# Altium footprint library PcbLib.PcbLib: 26 footprints (part 2 of 2)
Each footprint in its own frame and in the unit in brackets; x right, y up, seen from the top. Pads: shape width x height; smd on the part's side, far side on the other; paste and mask are expansions set on the pad; w line width, h text height; cw(c..) or ccw(c..) is an arc to the next point about the centre after c.
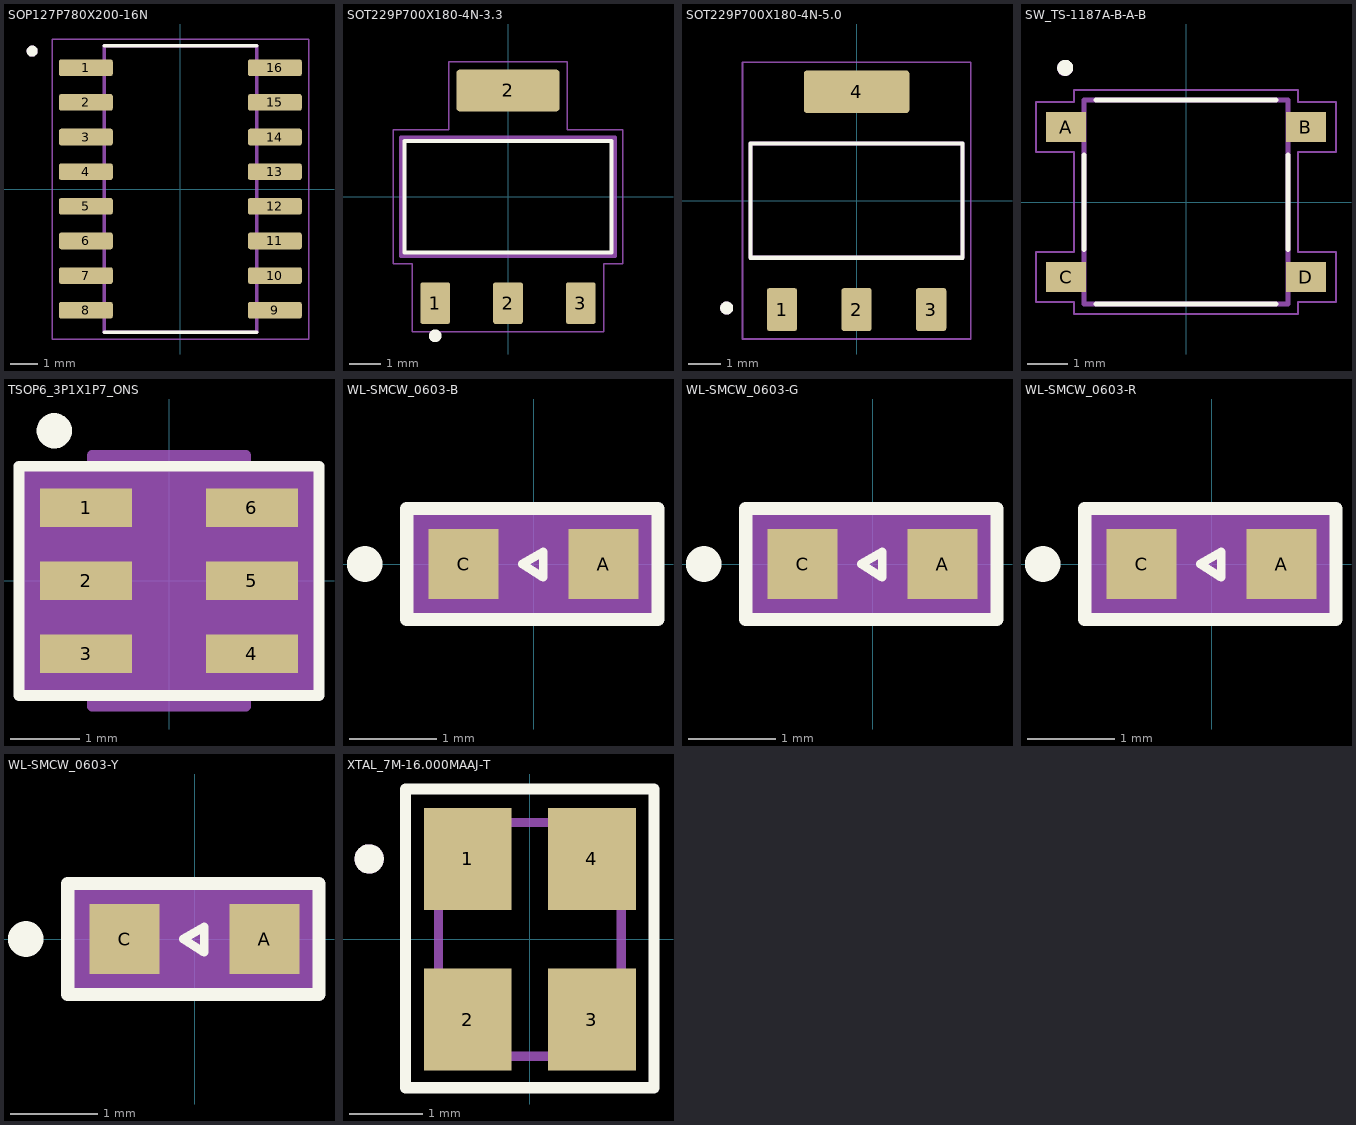
[diagram p1: the footprints below, top view; thin cyan lines are the x and y axes]

## SOP127P780X200-16N [mm]
height 2
pads (16):
  rrect25% 1.97x0.61 smd paste+0 mask+0.102: 1(-3.465,4.445) 2(-3.465,3.175) 3(-3.465,1.905) 4(-3.465,0.635) 5(-3.465,-0.635) 6(-3.465,-1.905) 7(-3.465,-3.175) 8(-3.465,-4.445) 9(3.465,-4.445) 10(3.465,-3.175) 11(3.465,-1.905) 12(3.465,-0.635) 13(3.465,0.635) 14(3.465,1.905) 15(3.465,3.175) 16(3.465,4.445)
Top Overlay:
  circle w0.2: c-5.435,5.055 r0.1
  lines w0.127: -2.8,-5.25 2.8,-5.25 ; -2.8,5.25 2.8,5.25
Mechanical 13:
  circle w0.2: c-5.435,5.055 r0.1
  lines w0.127: -2.8,-5.25 -2.8,5.25 2.8,5.25 2.8,-5.25 -2.8,-5.25
Mechanical 15:
  lines w0.05: -4.7,-5.5 -4.7,5.5 4.7,5.5 4.7,-5.5 -4.7,-5.5
3D body "CH340G-SOP16--3DModel.STEP": height 1.8, standoff -0.2, extent -3.96,-5.1 3.96,5.1

## SOT229P700X180-4N-3.3 [mm]
pads (4):
  rrect15% 0.93x1.31 smd: 1(-2.29,-3.345) 2(0,-3.345) 3(2.29,-3.345)
  rrect15% 3.24x1.31 smd: 2(0,3.345)
Top Overlay:
  circle w0.2: c-2.29,-4.373 r0.1
  lines w0.127: -3.253,-1.753 3.253,-1.753 3.253,1.753 -3.253,1.753 -3.253,-1.753
Mechanical 13:
  lines w0.127: -3.36,-1.86 -3.36,1.86 3.36,1.86 3.36,-1.86 -3.36,-1.86
Mechanical 15:
  lines w0.05: -3.61,-2.11 -3.61,2.11 -1.87,2.11 -1.87,4.25 1.87,4.25 1.87,2.11 3.61,2.11 3.61,-2.11 3.01,-2.11 3.01,-4.25 -3.01,-4.25 -3.01,-2.11 -3.61,-2.11
3D body "AMS1117-3.3--3DModel.STEP": height 1.8, standoff 0, extent -3.15,-3.5 3.15,3.5

## SOT229P700X180-4N-5.0 [mm]
height 1.8
pads (4):
  rrect15% 0.93x1.31 smd: 1(-2.29,-3.345) 2(0,-3.345) 3(2.29,-3.345)
  rrect15% 3.24x1.31 smd: 4(0,3.345)
Top Overlay:
  circle w0.2: c-3.99,-3.3 r0.1
  lines w0.127: -3.253,-1.753 -3.253,1.753 3.253,1.753 3.253,-1.753 -3.253,-1.753
Mechanical 13:
  circle w0.2: c-3.99,-3.3 r0.1
  lines w0.127: -3.253,-1.753 -3.253,1.753 3.253,1.753 3.253,-1.753 -3.253,-1.753
Mechanical 15:
  lines w0.05: -3.502,-4.25 -3.502,4.25 3.502,4.25 3.502,-4.25 -3.502,-4.25
3D body "AMS1117-5.0--3DModel.STEP": height 1.8, standoff 0, extent -3.251,-3.499 3.251,3.499

## SW_TS-1187A-B-A-B [mm]
pads (4):
  rect 1x0.75 smd: A(-3,1.875) B(3,1.875) C(-3,-1.875) D(3,-1.875)
Top Overlay:
  lines w0.127: -2.55,-1.18 -2.55,1.18 ; -2.25,-2.55 2.25,-2.55 ; -2.25,2.55 2.25,2.55 ; 2.55,-1.18 2.55,1.18
  lines w0.2: -2.974,3.45 ccw(c-3.019,3.36) -2.946,3.429
Mechanical 13:
  circle w0.2: c-3.023,3.353 r0.1
  lines w0.127: -2.55,-2.55 -2.55,2.55 2.55,2.55 2.55,-2.55 -2.55,-2.55
Mechanical 15:
  lines w0.05: -3.75,-2.5 -3.75,-1.25 -2.8,-1.25 -2.8,1.25 -3.75,1.25 -3.75,2.5 -2.8,2.5 -2.8,2.8 2.8,2.8 2.8,2.5 3.75,2.5 3.75,1.25 2.8,1.25 2.8,-1.25 3.75,-1.25 3.75,-2.5 2.8,-2.5 2.8,-2.8 -2.8,-2.8 -2.8,-2.5 -3.75,-2.5
3D body "TS-1187A-B-A-B--3DModel-STEP.STEP": height 1.55, standoff 0, extent -3.352,-2.55 3.148,2.55

## TSOP6_3P1X1P7_ONS [mil]
pads (6):
  rect 52x22 smd paste+0 mask+0: 1(-47,41.34) 2(-47,0) 3(-47,-41.34) 4(47,-41.34) 5(47,0) 6(47,41.34)
Top Overlay:
  circle w10: c-65,85 r5
  lines w6: -85,-65 -85,65 85,65 85,-65 -85,-65
Mechanical 13:
  lines w0: -12,61 ccw(c0,61) 12,61
  lines w1: -59,-51.34 -59,-31.34 -33.5,-31.34 -33.5,-51.34 -59,-51.34 ; -59,-10 -59,10 -33.5,10 -33.5,-10 -59,-10 ; -59,31.34 -59,51.34 -33.5,51.34 -33.5,31.34 -59,31.34 ; -33.5,-61 33.5,-61 33.5,61 -33.5,61 -33.5,-61 ; 33.5,-51.34 33.5,-31.34 59,-31.34 59,-51.34 33.5,-51.34 ; 33.5,-10 33.5,10 59,10 59,-10 33.5,-10 ; 33.5,31.34 33.5,51.34 59,51.34 59,31.34 33.5,31.34
Mechanical 15:
  region: -43.5,-62.34 -83,-62.34 -83,62.34 -43.5,62.34 -43.5,71 43.5,71 43.5,62.34 83,62.34 83,-62.34 43.5,-62.34 43.5,-71 -43.5,-71
  lines w6: -83,-62.34 -83,62.34 -43.5,62.34 -43.5,71 43.5,71 43.5,62.34 83,62.34 83,-62.34 43.5,-62.34 43.5,-71 -43.5,-71 -43.5,-62.34 -83,-62.34
3D body "SRV05-4MR6T1G.step": height 43.11, standoff 0, extent -59.02,-60.98 59.02,60.98

## WL-SMCW_0603-B [mm]
pads (2):
  rect 0.8x0.8 smd: A(0.8,0) C(-0.8,0)
Top Overlay:
  circle w0.254: c-1.93,0 r0.076
  lines w0.1: -0.13,0 0.11,-0.15 0.11,0.14 -0.13,0
  lines w0.152: -1.448,-0.635 -1.448,0.635 1.422,0.635 1.422,-0.635 -1.448,-0.635
Mechanical 13:
  lines w0.1: -0.8,-0.4 -0.8,0.4 0.8,0.4 0.8,-0.4 -0.8,-0.4 ; -0.13,0 0.11,-0.15 0.11,0.14 -0.13,0
Mechanical 15:
  region: 1.4,-0.7 -1.4,-0.7 -1.4,0.7 1.4,0.7
3D body "BLUE-LED-SMD-0603--3DModel.STP": height 0.7, standoff 0, extent -0.825,-0.4 0.775,0.4

## WL-SMCW_0603-G [mm]
pads (2):
  rect 0.8x0.8 smd: A(0.8,0) C(-0.8,0)
Top Overlay:
  circle w0.254: c-1.93,0 r0.076
  lines w0.1: -0.13,0 0.11,0.14 0.11,-0.15 -0.13,0
  lines w0.152: -1.448,-0.635 -1.448,0.635 1.422,0.635 1.422,-0.635 -1.448,-0.635
Mechanical 13:
  lines w0.1: -0.8,-0.4 0.8,-0.4 0.8,0.4 -0.8,0.4 -0.8,-0.4 ; -0.13,0 0.11,0.14 0.11,-0.15 -0.13,0
Mechanical 15:
  region: 1.4,-0.7 -1.4,-0.7 -1.4,0.7 1.4,0.7
3D body "GREEN-LED-SMD-0603--3DModel.STP": height 0.7, standoff 0, extent -0.825,-0.4 0.775,0.4

## WL-SMCW_0603-R [mm]
pads (2):
  rect 0.8x0.8 smd: A(0.8,0) C(-0.8,0)
Top Overlay:
  circle w0.254: c-1.93,0 r0.076
  lines w0.1: -0.13,0 0.11,-0.15 0.11,0.14 -0.13,0
  lines w0.152: -1.448,-0.635 -1.448,0.635 1.422,0.635 1.422,-0.635 -1.448,-0.635
Mechanical 13:
  lines w0.1: -0.8,-0.4 -0.8,0.4 0.8,0.4 0.8,-0.4 -0.8,-0.4 ; -0.13,0 0.11,-0.15 0.11,0.14 -0.13,0
Mechanical 15:
  region: 1.4,-0.7 -1.4,-0.7 -1.4,0.7 1.4,0.7
3D body "RED-LED-SMD-0603--3DModel.STP": height 0.7, standoff 0, extent -0.825,-0.4 0.775,0.4

## WL-SMCW_0603-Y [mm]
pads (2):
  rect 0.8x0.8 smd: A(0.8,0) C(-0.8,0)
Top Overlay:
  circle w0.254: c-1.93,0 r0.076
  lines w0.1: -0.13,0 0.11,0.14 0.11,-0.15 -0.13,0
  lines w0.152: -1.448,-0.635 -1.448,0.635 1.422,0.635 1.422,-0.635 -1.448,-0.635
Mechanical 13:
  lines w0.1: -0.8,-0.4 0.8,-0.4 0.8,0.4 -0.8,0.4 -0.8,-0.4 ; -0.13,0 0.11,0.14 0.11,-0.15 -0.13,0
Mechanical 15:
  region: 1.4,-0.7 -1.4,-0.7 -1.4,0.7 1.4,0.7
3D body "YELLOW-LED-SMD-0603--3DModel.stp": height 0.7, standoff 0, extent -0.825,-0.4 0.775,0.4

## XTAL_7M-16.000MAAJ-T [mm]
height 0.8
pads (4):
  rect 1.2x1.4 smd: 1(-0.85,1.1) 2(-0.85,-1.1) 3(0.85,-1.1) 4(0.85,1.1)
Top Overlay:
  circle w0.2: c-2.2,1.1 r0.1
  lines w0.152: -1.702,-2.032 -1.702,2.057 1.702,2.057 1.702,-2.032 -1.702,-2.032
Mechanical 13:
  circle w0.2: c-2.2,1.1 r0.1
  lines w0.127: -1.25,-1.6 -1.25,1.6 1.25,1.6 1.25,-1.6 -1.25,-1.6
Mechanical 15:
  lines w0.05: -1.7,-2.05 -1.7,2.05 1.7,2.05 1.7,-2.05 -1.7,-2.05
3D body "7M-16.000MAAJ-T--3DModel.STEP": height 0.8, standoff 0, extent -1.25,-1.6 1.25,1.6